# Altium schematic symbol library trs3122erget.SchLib: 1 symbol
Pins are listed as number, name and electrical type; pins without a type are passive.

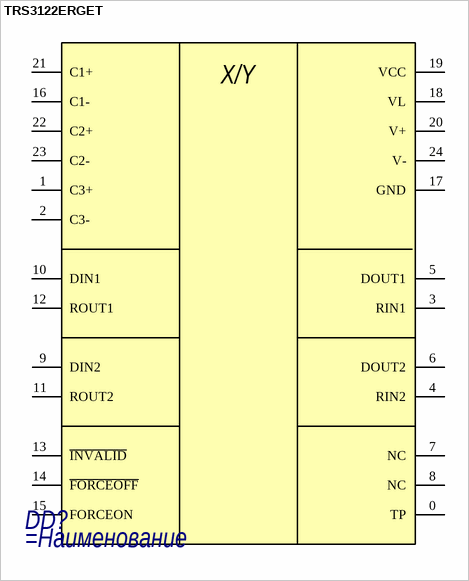
[diagram p0: symbol TRS3122ERGET]

## TRS3122ERGET
designator DD?
=Описание
pins: 0 TP, 1 C3+, 2 C3-, 3 RIN1, 4 RIN2, 5 DOUT1, 6 DOUT2, 7 NC, 8 NC, 9 DIN2, 10 DIN1, 11 ROUT2, 12 ROUT1, 13 ~{INVALID}, 14 ~{FORCEOFF}, 15 FORCEON, 16 C1-, 17 GND, 18 VL, 19 VCC, 20 V+, 21 C1+, 22 C2+, 23 C2-, 24 V-
text: X/Y